# Altium footprint library LSM6DS33TR.PcbLib: 1 footprints
Each footprint in its own frame and in the unit in brackets; x right, y up, seen from the top. Pads: shape width x height; smd on the part's side, far side on the other; paste and mask are expansions set on the pad; w line width, h text height; cw(c..) or ccw(c..) is an arc to the next point about the centre after c.
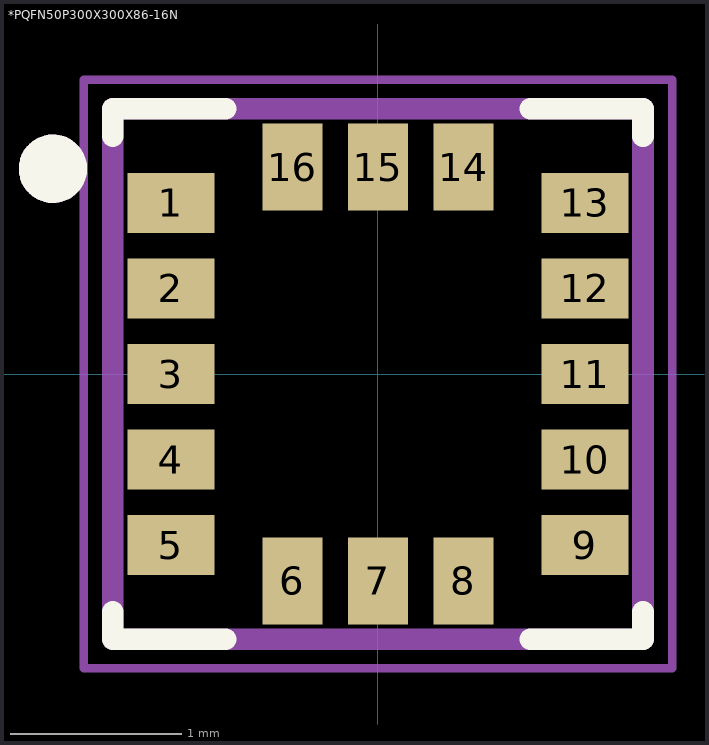
[diagram p0: the footprint, top view; thin cyan lines are the x and y axes]

## *PQFN50P300X300X86-16N [mm]
pads (16):
  rect 0.51x0.35 smd: 1(-1.21,1) 2(-1.21,0.5) 3(-1.21,0) 4(-1.21,-0.5) 5(-1.21,-1) 9(1.21,-1) 10(1.21,-0.5) 11(1.21,0) 12(1.21,0.5) 13(1.21,1)
  rect 0.35x0.51 smd: 6(-0.5,-1.21) 7(0,-1.21) 8(0.5,-1.21) 14(0.5,1.21) 15(0,1.21) 16(-0.5,1.21)
Top Overlay:
  circle w0.2: c-1.9,1.2 r0.1
  lines w0.127: -1.55,-1.39 -1.55,-1.55 -0.89,-1.55 ; -1.55,1.39 -1.55,1.55 -0.89,1.55 ; 0.89,-1.55 1.55,-1.55 1.55,-1.39 ; 0.89,1.55 1.55,1.55 1.55,1.39
Mechanical 13:
  circle w0.2: c-1.9,1.2 r0.1
  circle w0.2: c-1.9,1.2 r0.1
  lines w0.127: -1.55,-1.55 -1.55,1.55 ; -1.55,-1.55 1.55,-1.55 ; -1.55,-1.55 -1.55,1.55 ; -1.55,-1.55 1.55,-1.55 ; -1.55,1.55 1.55,1.55 ; -1.55,1.55 1.55,1.55 ; 1.55,-1.55 1.55,1.55 ; 1.55,-1.55 1.55,1.55
Mechanical 16:
  lines w0.05: -1.72,-1.72 -1.72,1.72 1.72,1.72 1.72,-1.72 -1.72,-1.72